# Altium schematic symbol library MAX1555.SchLib: 1 symbol
Pins are listed as number, name and electrical type; pins without a type are passive.

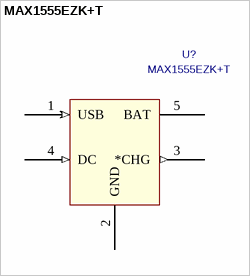
[diagram p0: symbol MAX1555EZK+T]

## MAX1555EZK+T
designator U?
C: Copyright (C) 2015 Accelerated Designs. All rights reserved; Vendor: Maxim Integrated Products; Built_By: EMA_UL_Team; Value: MAX1555EZK+T; Manufacturer_Part_Number: MAX1555EZK+T
footprint 21-0113C
pins: 1 USB (in), 2 GND (power), 3 *CHG (out), 4 DC (in), 5 BAT (power)